# Altium schematic symbol library 螺母.SchLib: 2 symbols
Pins are listed as number, name and electrical type; pins without a type are passive.

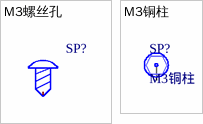
[diagram p0: symbols M3螺丝孔 to M3铜柱]

## M3螺丝孔
designator SP?
pins: 1

## M3铜柱
designator SP?
pins: 1